# Altium footprint library Flex-slot-2.PcbLib: 1 footprints
Each footprint in its own frame and in the unit in brackets; x right, y up, seen from the top. Pads: shape width x height; smd on the part's side, far side on the other; paste and mask are expansions set on the pad; w line width, h text height; cw(c..) or ccw(c..) is an arc to the next point about the centre after c.
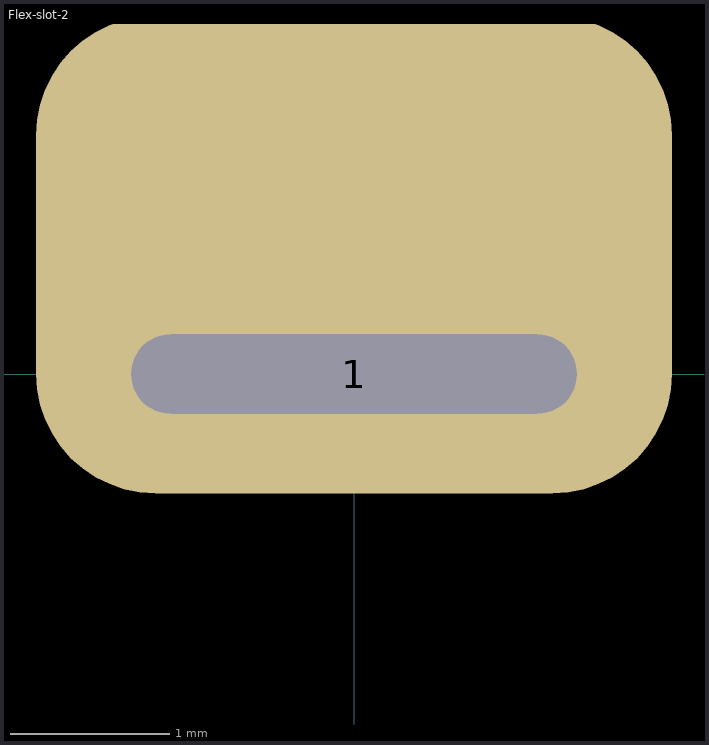
[diagram p0: the footprint, top view; thin cyan lines are the x and y axes]

## Flex-slot-2 [mm]
pads (1):
  rrect50% 4x3 hole 0.5 slot 2.8 at 0 deg copper offset 0,0.75 mask-0.2: 1(0,0)
Drill Guide:
  lines w0.01: -1.397,0 ccw(c-1.143,0) -1.143,-0.254 1.143,-0.254 ccw(c1.143,0) 1.397,0 ccw(c1.143,0) 1.143,0.254 -1.143,0.254 ccw(c-1.143,0) -1.397,0